# EAGLE library part CURRENT_BOOTLOADER (library Teensy_DIY_v1.0)
MKL02Z32 and MKL04Z32 bootloader chips for Teensy LC (MKL26) and Teensy 3.2 (MKL20D256) processors. Remember, all power supply pins need to be decoupled! Also note the connections that Paul recommends on his bootloader page.
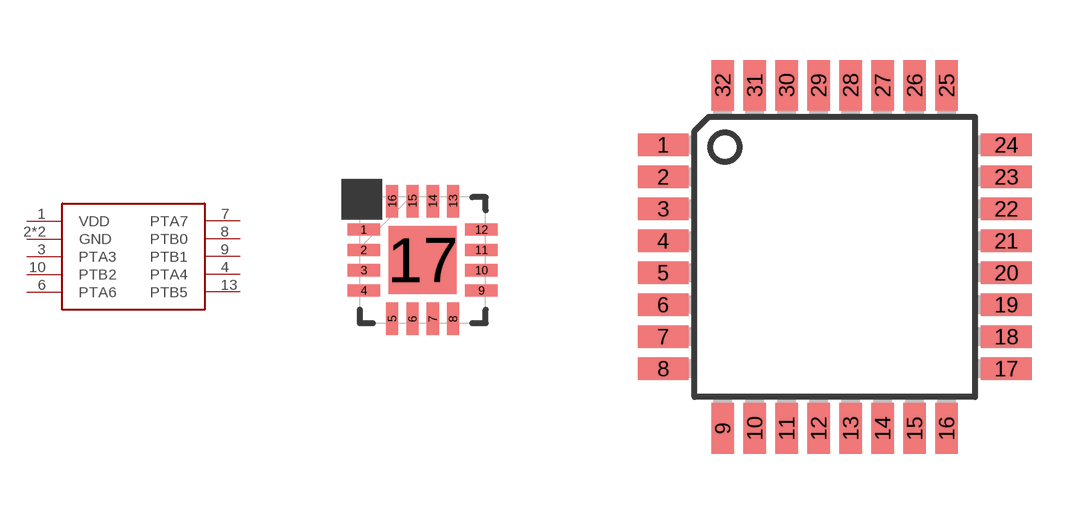
[diagram p3: symbol with the pads of QFN50P300X300X100-17N; footprints QFN50P300X300X100-17N, TQFP32-08]

Designator prefix 3X3MM

## CURRENT_BOOTLOADER3X3MM  [QFN50P300X300X100-17N]
1  VDD
2  GND
3  PTA3
4  PTA4
6  PTA6
7  PTA7
8  PTB0
9  PTB1
10  PTB2
13  PTB5
17  GND

## CURRENT_BOOTLOADERLQFP-32  [TQFP32-08]
3  VDD
4  VDD
5  GND
6  GND
7  PTA3
8  PTA4
10  PTA6
15  PTA7
16  PTB0
17  PTB1
18  PTB2
25  PTB5

## Footprint QFN50P300X300X100-17N (pad centres in mm)
smd 0.813 x 0.305: 1 -1.473,0.762; 2 -1.473,0.254; 3 -1.473,-0.254; 4 -1.473,-0.762; 9 1.473,-0.762; 10 1.473,-0.254; 11 1.473,0.254; 12 1.473,0.762
smd 0.305 x 0.813: 5 -0.762,-1.473; 6 -0.254,-1.473; 7 0.254,-1.473; 8 0.762,-1.473; 13 0.762,1.473; 14 0.254,1.473; 15 -0.254,1.473; 16 -0.762,1.473
smd 1.702 x 1.702: 17 0,0

## Footprint TQFP32-08 (pad centres in mm)
Thin Plasic Quad Flat Package Grid 0.8 mm
smd 1.27 x 0.559: 1 -4.293,2.8; 2 -4.293,2; 3 -4.293,1.2; 4 -4.293,0.4; 5 -4.293,-0.4; 6 -4.293,-1.2; 7 -4.293,-2; 8 -4.293,-2.8; 17 4.293,-2.8; 18 4.293,-2; 19 4.293,-1.2; 20 4.293,-0.4; 21 4.293,0.4; 22 4.293,1.2; 23 4.293,2; 24 4.293,2.8
smd 0.559 x 1.27: 9 -2.8,-4.293; 10 -2,-4.293; 11 -1.2,-4.293; 12 -0.4,-4.293; 13 0.4,-4.293; 14 1.2,-4.293; 15 2,-4.293; 16 2.8,-4.293; 25 2.8,4.293; 26 2,4.293; 27 1.2,4.293; 28 0.4,4.293; 29 -0.4,4.293; 30 -1.2,4.293; 31 -2,4.293; 32 -2.8,4.293